# EAGLE library part BEAGLEBONE_BLUE_R3_MP2615 (library EagleTestLibrary_3)
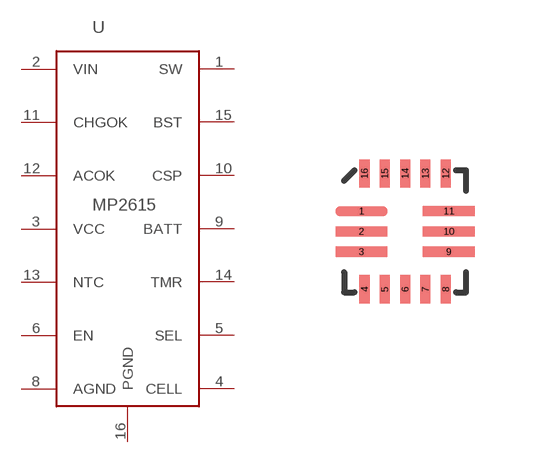
[diagram p9: symbol with the pads of BEAGLEBONE_BLUE_R3_QFN50P300X300X100-16; footprint BEAGLEBONE_BLUE_R3_QFN50P300X300X100-16]

Designator prefix -

## BEAGLEBONE_BLUE_R3_MP2615  [BEAGLEBONE_BLUE_R3_QFN50P300X300X100-16]
1  SW
2  VIN
3  VCC
4  CELL
5  SEL
6  EN
8  AGND
9  BATT
10  CSP
11  CHGOK
12  ACOK
13  NTC
14  TMR
15  BST
16  PGND

## Footprint BEAGLEBONE_BLUE_R3_QFN50P300X300X100-16 (pad centres in mm)
smd 1.295 x 0.254: 1 -1.092,0.508; 2 -1.092,0; 3 -1.092,-0.508; 9 1.092,-0.508; 10 1.092,0; 11 1.092,0.508
smd 0.254 x 0.711: 4 -1.016,-1.448; 5 -0.508,-1.448; 6 0,-1.448; 7 0.508,-1.448; 8 1.016,-1.448; 12 1.016,1.448; 13 0.508,1.448; 14 0,1.448; 15 -0.508,1.448; 16 -1.016,1.448